# Altium footprint library CONV_RCD-24-0.70.PcbLib: 1 footprints
Each footprint in its own frame and in the unit in brackets; x right, y up, seen from the top. Pads: shape width x height; smd on the part's side, far side on the other; paste and mask are expansions set on the pad; w line width, h text height; cw(c..) or ccw(c..) is an arc to the next point about the centre after c.
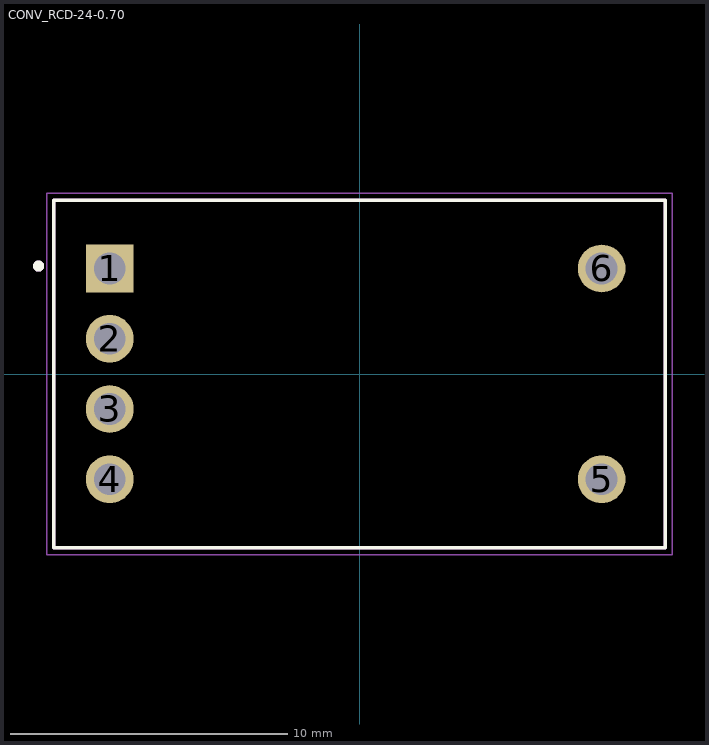
[diagram p0: the footprint, top view; thin cyan lines are the x and y axes]

## CONV_RCD-24-0.70 [mm]
pads (6):
  rect 1.725x1.725 hole 1.15: 1(-9.03,3.815)
  round 1.725 hole 1.15: 2(-9.03,1.275) 3(-9.03,-1.265) 4(-9.03,-3.805) 5(8.75,-3.805) 6(8.75,3.815)
Top Overlay:
  circle w0.2: c-11.6,3.9 r0.1
  lines w0.127: -11.05,-6.275 11.05,-6.275 11.05,6.275 -11.05,6.275 -11.05,-6.275
Mechanical 13:
  circle w0.2: c-11.6,3.9 r0.1
  lines w0.127: -11.05,-6.275 -11.05,6.275 11.05,6.275 11.05,-6.275 -11.05,-6.275
Mechanical 15:
  lines w0.05: -11.3,-6.525 11.3,-6.525 11.3,6.525 -11.3,6.525 -11.3,-6.525